# Altium footprint library Devices.PcbLib: 19 footprints (part 1 of 2)
Each footprint in its own frame and in the unit in brackets; x right, y up, seen from the top. Pads: shape width x height; smd on the part's side, far side on the other; paste and mask are expansions set on the pad; w line width, h text height; cw(c..) or ccw(c..) is an arc to the next point about the centre after c.
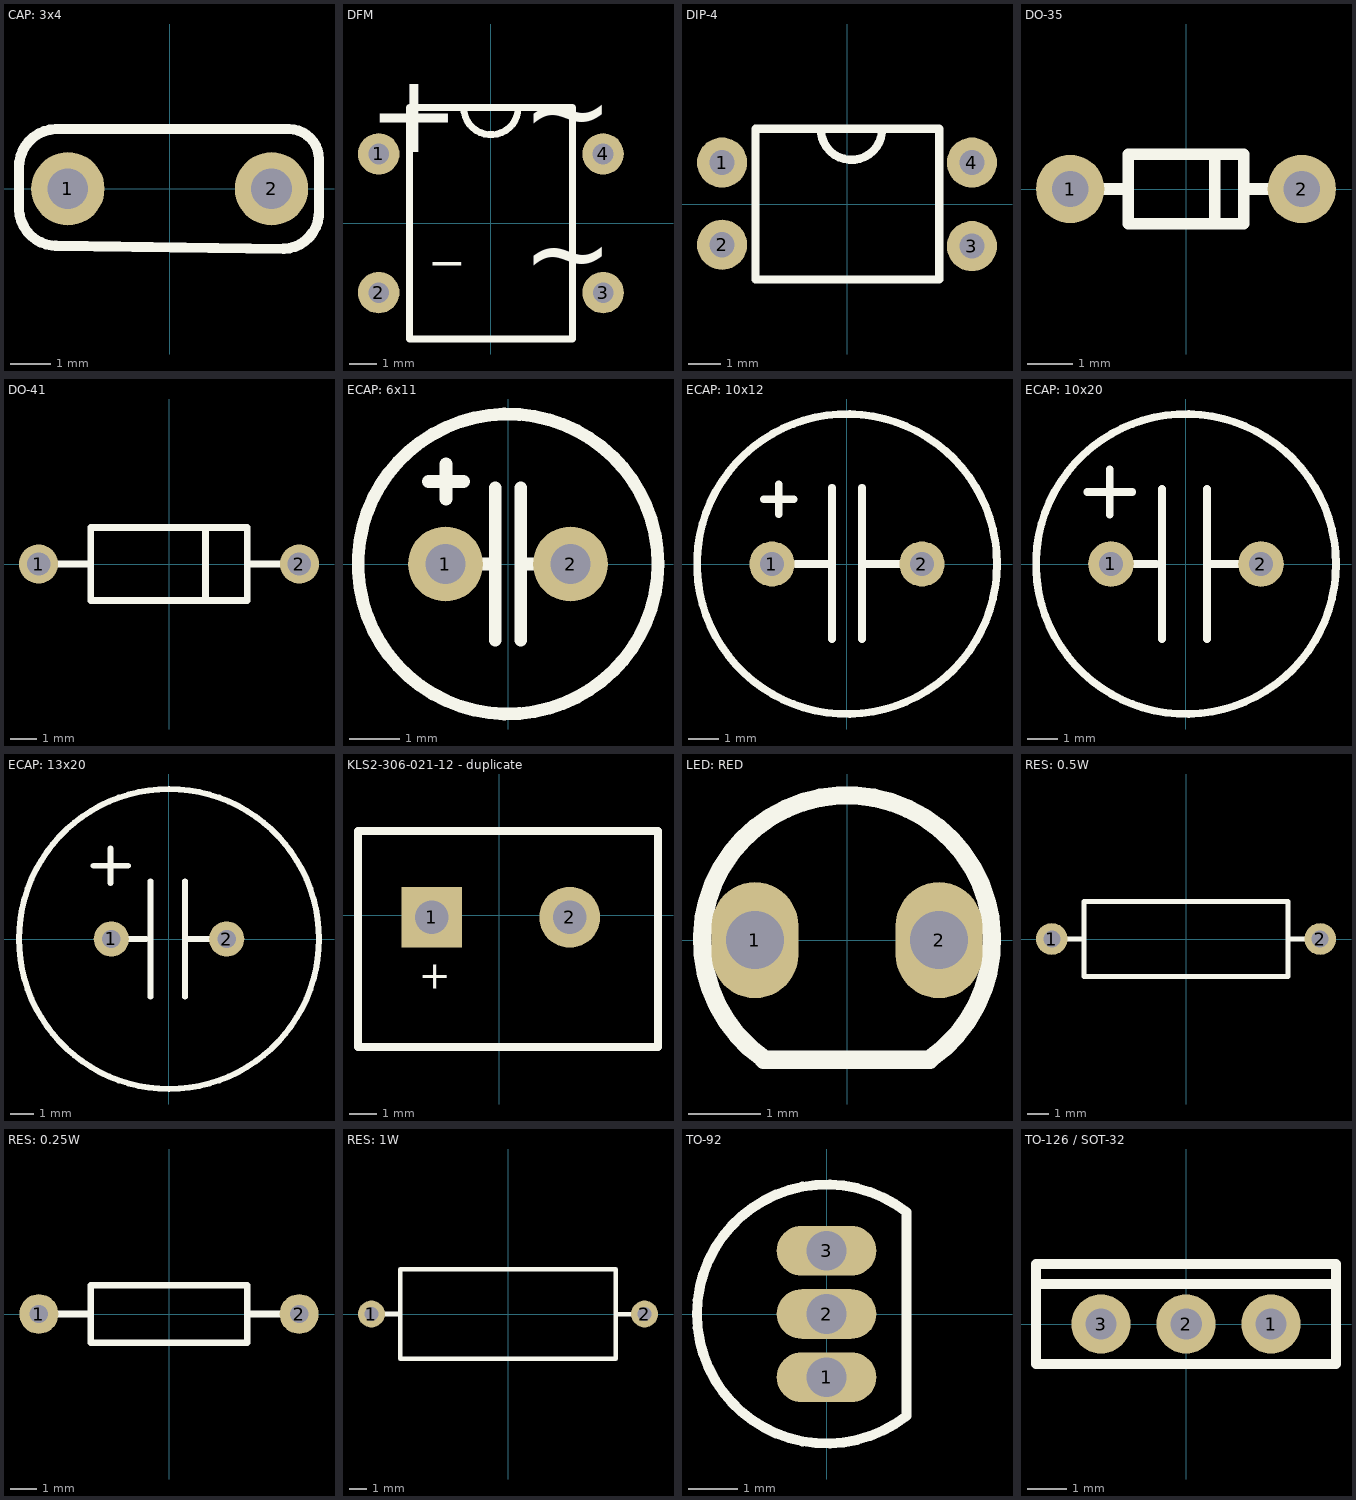
[diagram p0: the footprints below, top view; thin cyan lines are the x and y axes]

## CAP: 3x4 [mm] "3x4x5"
pads (2):
  round 1.8 hole 1: 1(-2.5,0) 2(2.5,0)
Top Overlay:
  lines w0.25: -2.8,-1.401 2.802,-1.475 ; -2.743,-1.403 cw(c-2.771,-0.475) -3.7,-0.503 -3.7,0.508 cw(c-2.771,0.536) -2.8,1.465 2.93,1.465 cw(c2.93,0.73) 3.665,0.73 3.665,-0.536
  lines w0.254: 2.802,-1.475 ccw(c2.764,-0.574) 3.665,-0.536
3D body "User Library-K10-17-1B-H90-0_1uF.STEP": height 5, standoff -4.5, extent -2.8,-1.5 2.802,1.502

## DFM [mil]
pads (4):
  round 60 hole 30: 1(-162.5,100.39) 2(-162.5,-100.39) 3(162.5,-100.39) 4(162.3,100.39)
Top Overlay:
  lines w10: -39.37,167.53 ccw(c0,167.52) 39.37,167.53 ; -118.11,-167.52 118.11,-167.52 118.11,167.52 -118.11,167.52 -118.11,-167.52
  text "~" at 45,70 h196.85
  text "~" at 45,-135 h196.85
  text "-" at -35,-135 h196.85
  text "+" at -45,65 h196.85
3D body "User Library-DFM_Bridge_Rectifier.step": height 167.32, standoff -124.02, extent -157.48,-167.52 157.48,167.52

## DIP-4 [mil]
pads (4):
  round 60 hole 30: 1(-149.61,50) 2(-149.61,-48.43) 3(149.61,-50) 4(149.61,50)
Top Overlay:
  lines w10: -31.06,85.69 ccw(c5.39,90) 41.93,86.5 ; -109.61,-90 110.39,-90 110.39,90.32 -109.61,90.32 -109.61,-90
3D body "User Library-DIP-4.step": height 169.29, standoff -118.11, extent -159.53,-90 150.32,90.32

## DO-35 [mm]
pads (2):
  round 1.5 hole 0.8: 1(-2.54,0) 2(2.54,0)
Top Overlay:
  lines w0.254: -2.54,0 -1.27,0 ; 0.635,-0.762 0.635,0.762 ; 1.27,0 2.54,0 ; -1.27,-0.762 1.27,-0.762 1.27,0.762 -1.27,0.762 -1.27,-0.762
3D body "User Library-1N4148 x5mm.step": height 1.75, standoff -2.35, extent -2.75,-0.75 2.75,0.75

## DO-41 [mm]
pads (2):
  round 1.5 hole 0.9: 1(-5,0) 2(5,0)
Top Overlay:
  lines w0.254: -5,0 -2.999,0 ; -3,1.363 -3,-1.397 3,-1.397 ; -3,1.397 3,1.397 3,-1.363 ; -2.999,-1.1 -2.999,1.1 ; 1.397,-1.397 1.397,1.397 ; 3.001,-1.1 3.001,1.1 ; 3.001,0 5,0
3D body "User Library-DO-41 10mm.STEP": height 2.86, standoff -2.5, extent -5.477,-1.362 5.383,1.363

## ECAP: 6x11 [mm] "6x11x2.5"
pads (2):
  round 1.5 hole 0.8: 1(-1.25,0) 2(1.25,0)
Top Overlay:
  circle w0.254: c0,0 r3
  lines w0.254: -1.589,1.651 -0.889,1.651 ; -1.25,0 -0.254,0 ; -1.239,1.301 -1.239,2.001 ; -0.254,-1.524 -0.254,0 ; -0.254,1.524 -0.254,0 ; 0.254,-1.524 0.254,0 ; 0.254,1.524 0.254,0 ; 1.25,0 0.254,0
3D body "Деталь1.stp": height 8, standoff -15, extent -3.01,-2.999 3,3

## ECAP: 10x12 [mm]
pads (2):
  round 1.5 hole 0.8: 1(-2.5,0) 2(2.5,0)
Top Overlay:
  circle w0.254: c0,0 r5
  lines w0.254: -2.778,2.159 -1.778,2.159 ; -2.278,1.659 -2.278,2.659 ; -1.7,0 -0.5,0 ; -0.508,0 -0.508,2.54 ; -0.5,-2.5 -0.5,2.54 ; 0.5,-2.5 0.5,2.54 ; 0.5,0 1.7,0 ; 1.192,0 1.788,0 1.192,0
3D body "User Library-Cap electro 10x12_5x5_0mm.STEP": height 12.53, standoff -3.98, extent -5.025,-5.025 5.025,5.025

## ECAP: 10x20 [mm] "10x20x5"
pads (2):
  round 1.524 hole 0.8: 1(-2.5,0) 2(2.5,0)
Top Overlay:
  circle w0.254: c0,0 r5
  lines w0.254: -3.29,2.401 -1.79,2.401 ; -2.54,1.651 -2.54,3.151 ; -2.5,0 -1,0 ; -0.8,-2.5 -0.8,2.5 ; 0.7,-2.5 0.7,2.5 ; 0.8,0 2.3,0
3D body "User Library-Cap electro 10x16x5_0mm.STEP": height 16.03, standoff -4.24, extent -5.025,-5.025 5.026,5.026

## ECAP: 13x20 [mm] "10x20x5"
pads (2):
  round 1.524 hole 0.8: 1(-2.5,0) 2(2.5,0)
Top Overlay:
  circle w0.254: c0,0 r6.5
  lines w0.254: -3.278,3.175 -1.778,3.175 ; -2.528,2.425 -2.528,3.925 ; -2.5,0 -1,0 ; -0.8,-2.5 -0.8,2.5 ; 0.7,-2.5 0.7,2.5 ; 0.8,0 2.3,0
3D body "User Library-Cap electrolitic radial 13x30.STEP": height 30.3, standoff -1.2, extent -6.497,-6.5 6.498,6.5

## KLS2-306-021-12 - duplicate [mm]
pads (2):
  rect 2.2x2.2 hole 1.2: 1(-2.449,-0.076)
  round 2.2 hole 1.2: 2(2.551,-0.076)
Top Overlay:
  lines w0.3: 5.751,2.999 5.751,1.043 5.751,-2.87 5.751,-4.776 -5.124,-4.776 -5.124,3.049 5.751,3.049
  text "+" at -2.921,-2.667 h1.02
3D body "User Library-Terminal-Screw-3A-2way.STEP": height 10, standoff -3, extent -4.974,-4.676 5.626,2.924

## LED: RED [mm]
pads (2):
  oval 1.2x1.6 hole 0.8: 1(-1.27,0) 2(1.27,0)
Top Overlay:
  lines w0.254: -1.147,-1.651 1.143,-1.651 ; -1.147,-1.638 cw(c0,0) 1.147,-1.638
3D body "CircuitWorks-REDLED.SLDPRT": height 5.38, standoff -3.17, extent -1.992,-1.524 1.992,1.968

## RES: 0.5W [mm]
pads (2):
  round 1.5 hole 0.8: 1(-6.35,0) 2(6.35,0)
Top Overlay:
  lines w0.254: -6.35,0 -4.826,0 ; 4.826,0 6.35,0 ; -4.826,-1.778 4.826,-1.778 4.826,1.778 -4.826,1.778 -4.826,-1.778
3D body "User Library-Res50-Axial 0_5W-680R.step": height 3.88, standoff -5.5, extent -6.725,-1.875 6.725,1.875

## RES: 0.25W [mm]
pads (2):
  oval 1.5x1.524 hole 0.7: 1(-5,0) 2(5,0)
Top Overlay:
  lines w0.254: -5,0 -2.999,0 ; -3,-1.1 3,-1.1 ; -3,1.1 3,1.1 ; -2.999,-1.1 -2.999,1.1 ; 3.001,-1.1 3.001,1.1 ; 3.001,0 5,0
3D body "User Library-AXIAL_RESISTOR(0_25W).step": height 2.6, standoff -1.5, extent -5.395,-1.2 5.405,1.2

## RES: 1W [mm]
pads (2):
  round 1.5 hole 0.8: 1(-7.62,0) 2(7.62,0)
Top Overlay:
  lines w0.254: -7.62,0 -6,0 ; 6.127,-0.003 7.62,-0.003 ; -6,-2.5 -6,2.5 6,2.5 6,-2.5 -6,-2.5
3D body "User Library-RES-1W.STEP": height 5, standoff -3, extent -7.97,-2.503 7.97,2.497

## TO-92 [mm]
pads (3):
  oval 2x1 hole 0.8: 1(0,-1.27) 2(0,0) 3(0,1.27)
Top Overlay:
  lines w0.2: 1.601,-2.049 cw(c0,0) 1.601,2.049 ; 1.6,-1.99 1.6,1.99
3D body "ALSRobot-TO-92A.SLDPRT": height 6, standoff -5, extent -2.4,-2.399 1.53,2.399

## TO-126 / SOT-32 [mm]
pads (3):
  round 1.5 hole 0.8: 1(2.159,0) 2(0,0) 3(-2.159,0)
Top Overlay:
  lines w0.254: -3.81,1.016 3.683,1.016 ; -3.81,-1.016 -3.81,1.524 3.81,1.524 3.81,-1.016 -3.81,-1.016
3D body "User Library-TO-126 (SOT32) Gold PCB.step": height 13.19, standoff -3.54, extent -3.8,-1 3.8,1.55